# EAGLE library part SIM100/4 (library con-amp)
AMP connector
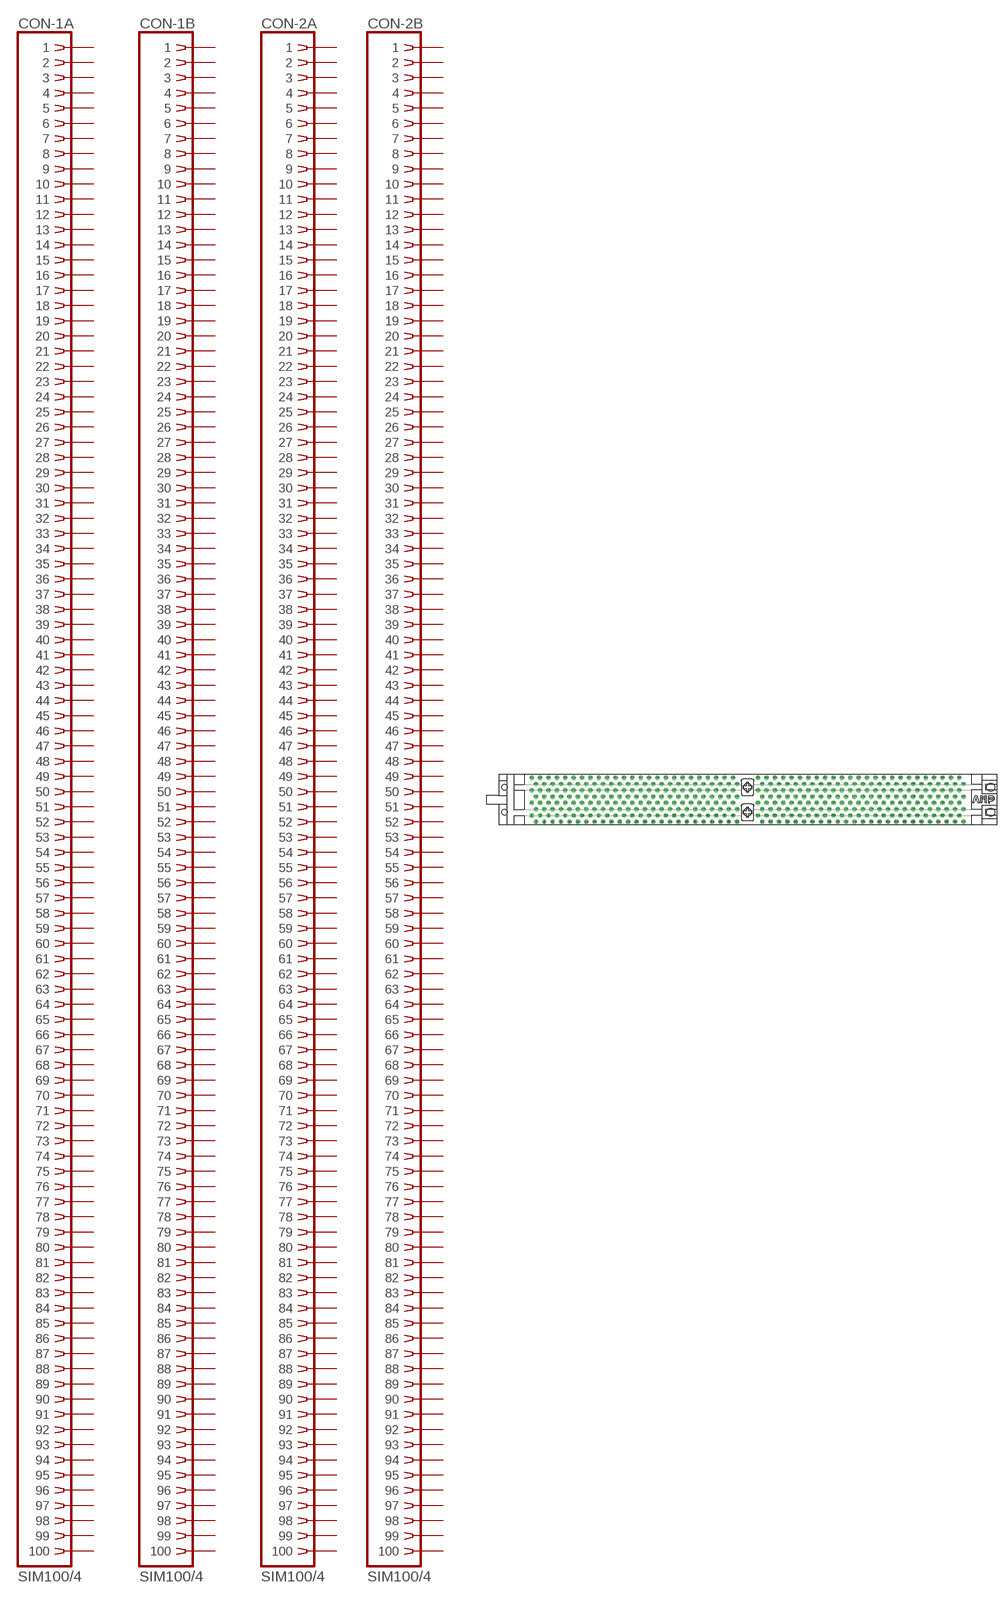
[diagram p39: symbol with the pads of 382813-1; footprint 382813-1]

Designator prefix CON; gates -1A=SIMM100 -1B=SIMM100 -2A=SIMM100 -2B=SIMM100

## SIM100/4  [382813-1]
1  -1A:1  pas
2  -1A:2  pas
3  -1A:3  pas
4  -1A:4  pas
5  -1A:5  pas
6  -1A:6  pas
7  -1A:7  pas
8  -1A:8  pas
9  -1A:9  pas
10  -1A:10  pas
11  -1A:11  pas
12  -1A:12  pas
13  -1A:13  pas
14  -1A:14  pas
15  -1A:15  pas
16  -1A:16  pas
17  -1A:17  pas
18  -1A:18  pas
19  -1A:19  pas
20  -1A:20  pas
21  -1A:21  pas
22  -1A:22  pas
23  -1A:23  pas
24  -1A:24  pas
25  -1A:25  pas
26  -1A:26  pas
27  -1A:27  pas
28  -1A:28  pas
29  -1A:29  pas
30  -1A:30  pas
31  -1A:31  pas
32  -1A:32  pas
33  -1A:33  pas
34  -1A:34  pas
35  -1A:35  pas
36  -1A:36  pas
37  -1A:37  pas
38  -1A:38  pas
39  -1A:39  pas
40  -1A:40  pas
41  -1A:41  pas
42  -1A:42  pas
43  -1A:43  pas
44  -1A:44  pas
45  -1A:45  pas
46  -1A:46  pas
47  -1A:47  pas
48  -1A:48  pas
49  -1A:49  pas
50  -1A:50  pas
51  -1A:51  pas
52  -1A:52  pas
53  -1A:53  pas
54  -1A:54  pas
55  -1A:55  pas
56  -1A:56  pas
57  -1A:57  pas
58  -1A:58  pas
59  -1A:59  pas
60  -1A:60  pas
61  -1A:61  pas
62  -1A:62  pas
63  -1A:63  pas
64  -1A:64  pas
65  -1A:65  pas
66  -1A:66  pas
67  -1A:67  pas
68  -1A:68  pas
69  -1A:69  pas
70  -1A:70  pas
71  -1A:71  pas
72  -1A:72  pas
73  -1A:73  pas
74  -1A:74  pas
75  -1A:75  pas
76  -1A:76  pas
77  -1A:77  pas
78  -1A:78  pas
79  -1A:79  pas
80  -1A:80  pas
81  -1A:81  pas
82  -1A:82  pas
83  -1A:83  pas
84  -1A:84  pas
85  -1A:85  pas
86  -1A:86  pas
87  -1A:87  pas
88  -1A:88  pas
89  -1A:89  pas
90  -1A:90  pas
91  -1A:91  pas
92  -1A:92  pas
93  -1A:93  pas
94  -1A:94  pas
95  -1A:95  pas
96  -1A:96  pas
97  -1A:97  pas
98  -1A:98  pas
99  -1A:99  pas
100  -1A:100  pas
101  -1B:1  pas
102  -1B:2  pas
103  -1B:3  pas
104  -1B:4  pas
105  -1B:5  pas
106  -1B:6  pas
107  -1B:7  pas
108  -1B:8  pas
109  -1B:9  pas
110  -1B:10  pas
111  -1B:11  pas
112  -1B:12  pas
113  -1B:13  pas
114  -1B:14  pas
115  -1B:15  pas
116  -1B:16  pas
117  -1B:17  pas
118  -1B:18  pas
119  -1B:19  pas
120  -1B:20  pas
121  -1B:21  pas
122  -1B:22  pas
123  -1B:23  pas
124  -1B:24  pas
125  -1B:25  pas
126  -1B:26  pas
127  -1B:27  pas
128  -1B:28  pas
129  -1B:29  pas
130  -1B:30  pas
131  -1B:31  pas
132  -1B:32  pas
133  -1B:33  pas
134  -1B:34  pas
135  -1B:35  pas
136  -1B:36  pas
137  -1B:37  pas
138  -1B:38  pas
139  -1B:39  pas
140  -1B:40  pas
141  -1B:41  pas
142  -1B:42  pas
143  -1B:43  pas
144  -1B:44  pas
145  -1B:45  pas
146  -1B:46  pas
147  -1B:47  pas
148  -1B:48  pas
149  -1B:49  pas
150  -1B:50  pas
151  -1B:51  pas
152  -1B:52  pas
153  -1B:53  pas
154  -1B:54  pas
155  -1B:55  pas
156  -1B:56  pas
157  -1B:57  pas
158  -1B:58  pas
159  -1B:59  pas
160  -1B:60  pas
161  -1B:61  pas
162  -1B:62  pas
163  -1B:63  pas
164  -1B:64  pas
165  -1B:65  pas
166  -1B:66  pas
167  -1B:67  pas
168  -1B:68  pas
169  -1B:69  pas
170  -1B:70  pas
171  -1B:71  pas
172  -1B:72  pas
173  -1B:73  pas
174  -1B:74  pas
175  -1B:75  pas
176  -1B:76  pas
177  -1B:77  pas
178  -1B:78  pas
179  -1B:79  pas
180  -1B:80  pas
181  -1B:81  pas
182  -1B:82  pas
183  -1B:83  pas
184  -1B:84  pas
185  -1B:85  pas
186  -1B:86  pas
187  -1B:87  pas
188  -1B:88  pas
189  -1B:89  pas
190  -1B:90  pas
191  -1B:91  pas
192  -1B:92  pas
193  -1B:93  pas
194  -1B:94  pas
195  -1B:95  pas
196  -1B:96  pas
197  -1B:97  pas
198  -1B:98  pas
199  -1B:99  pas
200  -1B:100  pas
201  -2A:1  pas
202  -2A:2  pas
203  -2A:3  pas
204  -2A:4  pas
205  -2A:5  pas
206  -2A:6  pas
207  -2A:7  pas
208  -2A:8  pas
209  -2A:9  pas
210  -2A:10  pas
211  -2A:11  pas
212  -2A:12  pas
213  -2A:13  pas
214  -2A:14  pas
215  -2A:15  pas
216  -2A:16  pas
217  -2A:17  pas
218  -2A:18  pas
219  -2A:19  pas
220  -2A:20  pas
221  -2A:21  pas
222  -2A:22  pas
223  -2A:23  pas
224  -2A:24  pas
225  -2A:25  pas
226  -2A:26  pas
227  -2A:27  pas
228  -2A:28  pas
229  -2A:29  pas
230  -2A:30  pas
231  -2A:31  pas
232  -2A:32  pas
233  -2A:33  pas
234  -2A:34  pas
235  -2A:35  pas
236  -2A:36  pas
237  -2A:37  pas
238  -2A:38  pas
239  -2A:39  pas
240  -2A:40  pas
241  -2A:41  pas
242  -2A:42  pas
243  -2A:43  pas
244  -2A:44  pas
245  -2A:45  pas
246  -2A:46  pas
247  -2A:47  pas
248  -2A:48  pas
249  -2A:49  pas
250  -2A:50  pas
251  -2A:51  pas
252  -2A:52  pas
253  -2A:53  pas
254  -2A:54  pas
255  -2A:55  pas
256  -2A:56  pas
257  -2A:57  pas
258  -2A:58  pas
259  -2A:59  pas
260  -2A:60  pas
261  -2A:61  pas
262  -2A:62  pas
263  -2A:63  pas
264  -2A:64  pas
265  -2A:65  pas
266  -2A:66  pas
267  -2A:67  pas
268  -2A:68  pas
269  -2A:69  pas
270  -2A:70  pas
271  -2A:71  pas
272  -2A:72  pas
273  -2A:73  pas
274  -2A:74  pas
275  -2A:75  pas
276  -2A:76  pas
277  -2A:77  pas
278  -2A:78  pas
279  -2A:79  pas
280  -2A:80  pas
281  -2A:81  pas
282  -2A:82  pas
283  -2A:83  pas
284  -2A:84  pas
285  -2A:85  pas
286  -2A:86  pas
287  -2A:87  pas
288  -2A:88  pas
289  -2A:89  pas
290  -2A:90  pas
291  -2A:91  pas
292  -2A:92  pas
293  -2A:93  pas
294  -2A:94  pas
295  -2A:95  pas
296  -2A:96  pas
297  -2A:97  pas
298  -2A:98  pas
299  -2A:99  pas
300  -2A:100  pas
301  -2B:1  pas
302  -2B:2  pas
303  -2B:3  pas
304  -2B:4  pas
305  -2B:5  pas
306  -2B:6  pas
307  -2B:7  pas
308  -2B:8  pas
309  -2B:9  pas
310  -2B:10  pas
311  -2B:11  pas
312  -2B:12  pas
313  -2B:13  pas
314  -2B:14  pas
315  -2B:15  pas
316  -2B:16  pas
317  -2B:17  pas
318  -2B:18  pas
319  -2B:19  pas
320  -2B:20  pas
321  -2B:21  pas
322  -2B:22  pas
323  -2B:23  pas
324  -2B:24  pas
325  -2B:25  pas
326  -2B:26  pas
327  -2B:27  pas
328  -2B:28  pas
329  -2B:29  pas
330  -2B:30  pas
331  -2B:31  pas
332  -2B:32  pas
333  -2B:33  pas
334  -2B:34  pas
335  -2B:35  pas
336  -2B:36  pas
337  -2B:37  pas
338  -2B:38  pas
339  -2B:39  pas
340  -2B:40  pas
341  -2B:41  pas
342  -2B:42  pas
343  -2B:43  pas
344  -2B:44  pas
345  -2B:45  pas
346  -2B:46  pas
347  -2B:47  pas
348  -2B:48  pas
349  -2B:49  pas
350  -2B:50  pas
351  -2B:51  pas
352  -2B:52  pas
353  -2B:53  pas
354  -2B:54  pas
355  -2B:55  pas
356  -2B:56  pas
357  -2B:57  pas
358  -2B:58  pas
359  -2B:59  pas
360  -2B:60  pas
361  -2B:61  pas
362  -2B:62  pas
363  -2B:63  pas
364  -2B:64  pas
365  -2B:65  pas
366  -2B:66  pas
367  -2B:67  pas
368  -2B:68  pas
369  -2B:69  pas
370  -2B:70  pas
371  -2B:71  pas
372  -2B:72  pas
373  -2B:73  pas
374  -2B:74  pas
375  -2B:75  pas
376  -2B:76  pas
377  -2B:77  pas
378  -2B:78  pas
379  -2B:79  pas
380  -2B:80  pas
381  -2B:81  pas
382  -2B:82  pas
383  -2B:83  pas
384  -2B:84  pas
385  -2B:85  pas
386  -2B:86  pas
387  -2B:87  pas
388  -2B:88  pas
389  -2B:89  pas
390  -2B:90  pas
391  -2B:91  pas
392  -2B:92  pas
393  -2B:93  pas
394  -2B:94  pas
395  -2B:95  pas
396  -2B:96  pas
397  -2B:97  pas
398  -2B:98  pas
399  -2B:99  pas
400  -2B:100  pas

## Footprint 382813-1 (pad centres in mm)
DIMM I Dual Read Out
drill 0.813 square: 1 -65.405,-4.763
drill 0.813 octagon: 2 -64.135,-6.668; 3 -62.865,-4.763; 4 -61.595,-6.668; 5 -60.325,-4.763; 6 -59.055,-6.668; 7 -57.785,-4.763; 8 -56.515,-6.668; 9 -55.245,-4.763; 10 -53.975,-6.668; 11 -52.705,-4.763; 12 -51.435,-6.668; 13 -50.165,-4.763; 14 -48.895,-6.668; 15 -47.625,-4.763; 16 -46.355,-6.668; 17 -45.085,-4.763; 18 -43.815,-6.668; 19 -42.545,-4.763; 20 -41.275,-6.668; 21 -40.005,-4.763; 22 -38.735,-6.668; 23 -37.465,-4.763; 24 -36.195,-6.668; 25 -34.925,-4.763; 26 -33.655,-6.668; 27 -32.385,-4.763; 28 -31.115,-6.668; 29 -29.845,-4.763; 30 -28.575,-6.668; 31 -27.305,-4.763; 32 -26.035,-6.668; 33 -24.765,-4.763; 34 -23.495,-6.668; 35 -22.225,-4.763; 36 -20.955,-6.668; 37 -19.685,-4.763; 38 -18.415,-6.668; 39 -17.145,-4.763; 40 -15.875,-6.668; 41 -14.605,-4.763; 42 -13.335,-6.668; 43 -12.065,-4.763; 44 -10.795,-6.668; 45 -9.525,-4.763; 46 -8.255,-6.668; 47 -6.985,-4.763; 48 -5.715,-6.668; 49 -4.445,-4.763; 50 -3.175,-6.668; 51 3.175,-4.763; 52 4.445,-6.668; 53 5.715,-4.763; 54 6.985,-6.668; 55 8.255,-4.763; 56 9.525,-6.668; 57 10.795,-4.763; 58 12.065,-6.668; 59 13.335,-4.763; 60 14.605,-6.668; 61 15.875,-4.763; 62 17.145,-6.668; 63 18.415,-4.763; 64 19.685,-6.668; 65 20.955,-4.763; 66 22.225,-6.668; 67 23.495,-4.763; 68 24.765,-6.668; 69 26.035,-4.763; 70 27.305,-6.668; 71 28.575,-4.763; 72 29.845,-6.668; 73 31.115,-4.763; 74 32.385,-6.668; 75 33.655,-4.763; 76 34.925,-6.668; 77 36.195,-4.763; 78 37.465,-6.668; 79 38.735,-4.763; 80 40.005,-6.668; 81 41.275,-4.763; 82 42.545,-6.668; 83 43.815,-4.763; 84 45.085,-6.668; 85 46.355,-4.763; 86 47.625,-6.668; 87 48.895,-4.763; 88 50.165,-6.668; 89 51.435,-4.763; 90 52.705,-6.668; 91 53.975,-4.763; 92 55.245,-6.668; 93 56.515,-4.763; 94 57.785,-6.668; 95 59.055,-4.763; 96 60.325,-6.668; 97 61.595,-4.763; 98 62.865,-6.668; 99 64.135,-4.763; 100 65.405,-6.668; 101 -65.405,-0.953; 102 -64.135,-2.857; 103 -62.865,-0.953; 104 -61.595,-2.857; 105 -60.325,-0.953; 106 -59.055,-2.857; 107 -57.785,-0.953; 108 -56.515,-2.857; 109 -55.245,-0.953; 110 -53.975,-2.857; 111 -52.705,-0.953; 112 -51.435,-2.857; 113 -50.165,-0.953; 114 -48.895,-2.857; 115 -47.625,-0.953; 116 -46.355,-2.857; 117 -45.085,-0.953; 118 -43.815,-2.857; 119 -42.545,-0.953; 120 -41.275,-2.857; 121 -40.005,-0.953; 122 -38.735,-2.857; 123 -37.465,-0.953; 124 -36.195,-2.857; 125 -34.925,-0.953; 126 -33.655,-2.857; 127 -32.385,-0.953; 128 -31.115,-2.857; 129 -29.845,-0.953; 130 -28.575,-2.857; 131 -27.305,-0.953; 132 -26.035,-2.857; 133 -24.765,-0.953; 134 -23.495,-2.857; 135 -22.225,-0.953; 136 -20.955,-2.857; 137 -19.685,-0.953; 138 -18.415,-2.857; 139 -17.145,-0.953; 140 -15.875,-2.857; 141 -14.605,-0.953; 142 -13.335,-2.857; 143 -12.065,-0.953; 144 -10.795,-2.857; 145 -9.525,-0.953; 146 -8.255,-2.857; 147 -6.985,-0.953; 148 -5.715,-2.857; 149 -4.445,-0.953; 150 -3.175,-2.857; 151 3.175,-0.953; 152 4.445,-2.857; 153 5.715,-0.953; 154 6.985,-2.857; 155 8.255,-0.953; 156 9.525,-2.857; 157 10.795,-0.953; 158 12.065,-2.857; 159 13.335,-0.953; 160 14.605,-2.857; 161 15.875,-0.953; 162 17.145,-2.857; 163 18.415,-0.953; 164 19.685,-2.857; 165 20.955,-0.953; 166 22.225,-2.857; 167 23.495,-0.953; 168 24.765,-2.857; 169 26.035,-0.953; 170 27.305,-2.857; 171 28.575,-0.953; 172 29.845,-2.857; 173 31.115,-0.953; 174 32.385,-2.857; 175 33.655,-0.953; 176 34.925,-2.857; 177 36.195,-0.953; 178 37.465,-2.857; 179 38.735,-0.953; 180 40.005,-2.857; 181 41.275,-0.953; 182 42.545,-2.857; 183 43.815,-0.953; 184 45.085,-2.857; 185 46.355,-0.953; 186 47.625,-2.857; 187 48.895,-0.953; 188 50.165,-2.857; 189 51.435,-0.953; 190 52.705,-2.857; 191 53.975,-0.953; 192 55.245,-2.857; 193 56.515,-0.953; 194 57.785,-2.857; 195 59.055,-0.953; 196 60.325,-2.857; 197 61.595,-0.953; 198 62.865,-2.857; 199 64.135,-0.953; 200 65.405,-2.857; 201 -65.405,2.857; 202 -64.135,0.953; 203 -62.865,2.857; 204 -61.595,0.953; 205 -60.325,2.857; 206 -59.055,0.953; 207 -57.785,2.857; 208 -56.515,0.953; 209 -55.245,2.857; 210 -53.975,0.953; 211 -52.705,2.857; 212 -51.435,0.953; 213 -50.165,2.857; 214 -48.895,0.953; 215 -47.625,2.857; 216 -46.355,0.953; 217 -45.085,2.857; 218 -43.815,0.953; 219 -42.545,2.857; 220 -41.275,0.953; 221 -40.005,2.857; 222 -38.735,0.953; 223 -37.465,2.857; 224 -36.195,0.953; 225 -34.925,2.857; 226 -33.655,0.953; 227 -32.385,2.857; 228 -31.115,0.953; 229 -29.845,2.857; 230 -28.575,0.953; 231 -27.305,2.857; 232 -26.035,0.953; 233 -24.765,2.857; 234 -23.495,0.953; 235 -22.225,2.857; 236 -20.955,0.953; 237 -19.685,2.857; 238 -18.415,0.953; 239 -17.145,2.857; 240 -15.875,0.953; 241 -14.605,2.857; 242 -13.335,0.953; 243 -12.065,2.857; 244 -10.795,0.953; 245 -9.525,2.857; 246 -8.255,0.953; 247 -6.985,2.857; 248 -5.715,0.953; 249 -4.445,2.857; 250 -3.175,0.953; 251 3.175,2.857; 252 4.445,0.953; 253 5.715,2.857; 254 6.985,0.953; 255 8.255,2.857; 256 9.525,0.953; 257 10.795,2.857; 258 12.065,0.953; 259 13.335,2.857; 260 14.605,0.953; 261 15.875,2.857; 262 17.145,0.953; 263 18.415,2.857; 264 19.685,0.953; 265 20.955,2.857; 266 22.225,0.953; 267 23.495,2.857; 268 24.765,0.953; 269 26.035,2.857; 270 27.305,0.953; 271 28.575,2.857; 272 29.845,0.953; 273 31.115,2.857; 274 32.385,0.953; 275 33.655,2.857; 276 34.925,0.953; 277 36.195,2.857; 278 37.465,0.953; 279 38.735,2.857; 280 40.005,0.953; 281 41.275,2.857; 282 42.545,0.953; 283 43.815,2.857; 284 45.085,0.953; 285 46.355,2.857; 286 47.625,0.953; 287 48.895,2.857; 288 50.165,0.953; 289 51.435,2.857; 290 52.705,0.953; 291 53.975,2.857; 292 55.245,0.953; 293 56.515,2.857; 294 57.785,0.953; 295 59.055,2.857; 296 60.325,0.953; 297 61.595,2.857; 298 62.865,0.953; 299 64.135,2.857; 300 65.405,0.953; 301 -65.405,6.668; 302 -64.135,4.763; 303 -62.865,6.668; 304 -61.595,4.763; 305 -60.325,6.668; 306 -59.055,4.763; 307 -57.785,6.668; 308 -56.515,4.763; 309 -55.245,6.668; 310 -53.975,4.763; 311 -52.705,6.668; 312 -51.435,4.763; 313 -50.165,6.668; 314 -48.895,4.763; 315 -47.625,6.668; 316 -46.355,4.763; 317 -45.085,6.668; 318 -43.815,4.763; 319 -42.545,6.668; 320 -41.275,4.763; 321 -40.005,6.668; 322 -38.735,4.763; 323 -37.465,6.668; 324 -36.195,4.763; 325 -34.925,6.668; 326 -33.655,4.763; 327 -32.385,6.668; 328 -31.115,4.763; 329 -29.845,6.668; 330 -28.575,4.763; 331 -27.305,6.668; 332 -26.035,4.763; 333 -24.765,6.668; 334 -23.495,4.763; 335 -22.225,6.668; 336 -20.955,4.763; 337 -19.685,6.668; 338 -18.415,4.763; 339 -17.145,6.668; 340 -15.875,4.763; 341 -14.605,6.668; 342 -13.335,4.763; 343 -12.065,6.668; 344 -10.795,4.763; 345 -9.525,6.668; 346 -8.255,4.763; 347 -6.985,6.668; 348 -5.715,4.763; 349 -4.445,6.668; 350 -3.175,4.763; 351 3.175,6.668; 352 4.445,4.763; 353 5.715,6.668; 354 6.985,4.763; 355 8.255,6.668; 356 9.525,4.763; 357 10.795,6.668; 358 12.065,4.763; 359 13.335,6.668; 360 14.605,4.763; 361 15.875,6.668; 362 17.145,4.763; 363 18.415,6.668; 364 19.685,4.763; 365 20.955,6.668; 366 22.225,4.763; 367 23.495,6.668; 368 24.765,4.763; 369 26.035,6.668; 370 27.305,4.763; 371 28.575,6.668; 372 29.845,4.763; 373 31.115,6.668; 374 32.385,4.763; 375 33.655,6.668; 376 34.925,4.763; 377 36.195,6.668; 378 37.465,4.763; 379 38.735,6.668; 380 40.005,4.763; 381 41.275,6.668; 382 42.545,4.763; 383 43.815,6.668; 384 45.085,4.763; 385 46.355,6.668; 386 47.625,4.763; 387 48.895,6.668; 388 50.165,4.763; 389 51.435,6.668; 390 52.705,4.763; 391 53.975,6.668; 392 55.245,4.763; 393 56.515,6.668; 394 57.785,4.763; 395 59.055,6.668; 396 60.325,4.763; 397 61.595,6.668; 398 62.865,4.763; 399 64.135,6.668; 400 65.405,4.763
hole 1.575 at -73.66,-3.81
hole 2.362 at 0,-3.81
hole 2.362 at 73.66,-3.81
hole 1.575 at -73.66,3.81
hole 2.362 at 0,3.81
hole 2.362 at 73.66,3.81